# Altium schematic symbol library SCH - MCU - STM32 - ST MICROELECTRONICS STM32F373V(8-B-C)HX UFBGA100.SchLib: 1 symbol
Pins are listed as number, name and electrical type; pins without a type are passive.

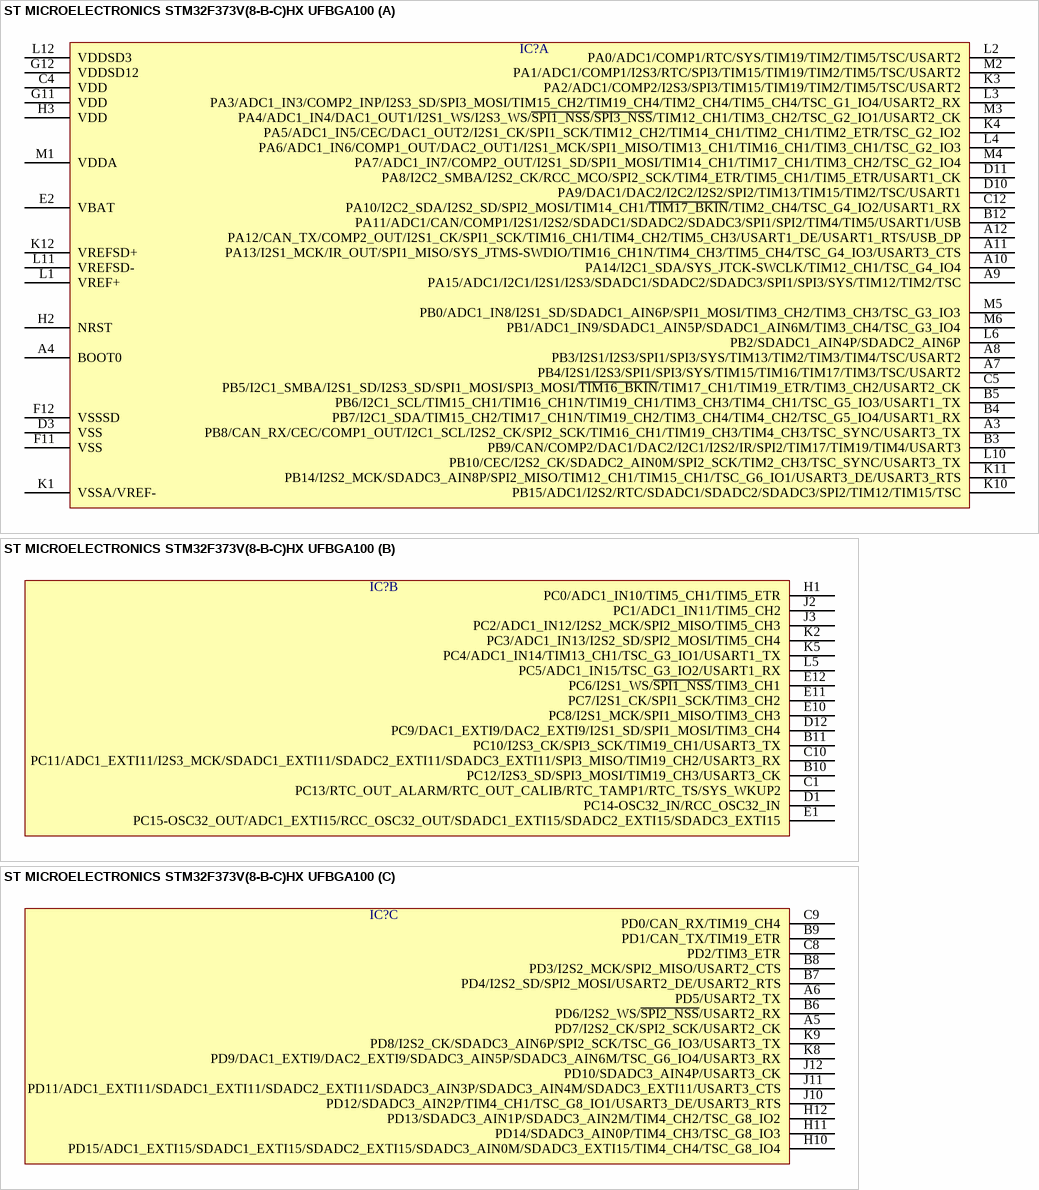
[diagram p0: symbol ST MICROELECTRONICS STM32F373V(8-B-C)HX UFBGA100]

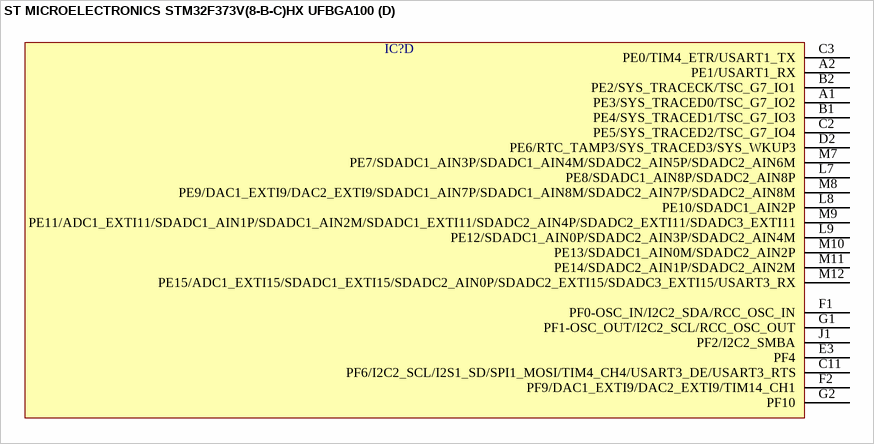
[diagram p1: symbol ST MICROELECTRONICS STM32F373V(8-B-C)HX UFBGA100]

## ST MICROELECTRONICS STM32F373V(8-B-C)HX UFBGA100
designator IC?  (value not drawn)
part A pins: A3 PB8/CAN_RX/CEC/COMP1_OUT/I2C1_SCL/I2S2_CK/SPI2_SCK/TIM16_CH1/TIM19_CH3/TIM4_CH3/TSC_SYNC/USART3_TX, A4 BOOT0, A7 PB4/I2S1/I2S3/SPI1/SPI3/SYS/TIM15/TIM16/TIM17/TIM3/TSC/USART2, A8 PB3/I2S1/I2S3/SPI1/SPI3/SYS/TIM13/TIM2/TIM3/TIM4/TSC/USART2, A9 PA15/ADC1/I2C1/I2S1/I2S3/SDADC1/SDADC2/SDADC3/SPI1/SPI3/SYS/TIM12/TIM2/TSC, A10 PA14/I2C1_SDA/SYS_JTCK-SWCLK/TIM12_CH1/TSC_G4_IO4, A11 PA13/I2S1_MCK/IR_OUT/SPI1_MISO/SYS_JTMS-SWDIO/TIM16_CH1N/TIM4_CH3/TIM5_CH4/TSC_G4_IO3/USART3_CTS, A12 PA12/CAN_TX/COMP2_OUT/I2S1_CK/SPI1_SCK/TIM16_CH1/TIM4_CH2/TIM5_CH3/USART1_DE/USART1_RTS/USB_DP, B3 PB9/CAN/COMP2/DAC1/DAC2/I2C1/I2S2/IR/SPI2/TIM17/TIM19/TIM4/USART3, B4 PB7/I2C1_SDA/TIM15_CH2/TIM17_CH1N/TIM19_CH2/TIM3_CH4/TIM4_CH2/TSC_G5_IO4/USART1_RX, B5 PB6/I2C1_SCL/TIM15_CH1/TIM16_CH1N/TIM19_CH1/TIM3_CH3/TIM4_CH1/TSC_G5_IO3/USART1_TX, B12 PA11/ADC1/CAN/COMP1/I2S1/I2S2/SDADC1/SDADC2/SDADC3/SPI1/SPI2/TIM4/TIM5/USART1/USB, C4 VDD, C5 PB5/I2C1_SMBA/I2S1_SD/I2S3_SD/SPI1_MOSI/SPI3_MOSI/~{TIM16_BKIN}/TIM17_CH1/TIM19_ETR/TIM3_CH2/USART2_CK, C12 PA10/I2C2_SDA/I2S2_SD/SPI2_MOSI/TIM14_CH1/~{TIM17_BKIN}/TIM2_CH4/TSC_G4_IO2/USART1_RX, D3 VSS, D10 PA9/DAC1/DAC2/I2C2/I2S2/SPI2/TIM13/TIM15/TIM2/TSC/USART1, D11 PA8/I2C2_SMBA/I2S2_CK/RCC_MCO/SPI2_SCK/TIM4_ETR/TIM5_CH1/TIM5_ETR/USART1_CK, E2 VBAT, F11 VSS, F12 VSSSD, G11 VDD, G12 VDDSD12, H2 NRST, H3 VDD, K1 VSSA/VREF-, K3 PA2/ADC1/COMP2/I2S3/SPI3/TIM15/TIM19/TIM2/TIM5/TSC/USART2, K4 PA5/ADC1_IN5/CEC/DAC1_OUT2/I2S1_CK/SPI1_SCK/TIM12_CH2/TIM14_CH1/TIM2_CH1/TIM2_ETR/TSC_G2_IO2, K10 PB15/ADC1/I2S2/RTC/SDADC1/SDADC2/SDADC3/SPI2/TIM12/TIM15/TSC, K11 PB14/I2S2_MCK/SDADC3_AIN8P/SPI2_MISO/TIM12_CH1/TIM15_CH1/TSC_G6_IO1/USART3_DE/USART3_RTS, K12 VREFSD+, L1 VREF+, L2 PA0/ADC1/COMP1/RTC/SYS/TIM19/TIM2/TIM5/TSC/USART2, L3 PA3/ADC1_IN3/COMP2_INP/I2S3_SD/SPI3_MOSI/TIM15_CH2/TIM19_CH4/TIM2_CH4/TIM5_CH4/TSC_G1_IO4/USART2_RX, L4 PA6/ADC1_IN6/COMP1_OUT/DAC2_OUT1/I2S1_MCK/SPI1_MISO/TIM13_CH1/TIM16_CH1/TIM3_CH1/TSC_G2_IO3, L6 PB2/SDADC1_AIN4P/SDADC2_AIN6P, L10 PB10/CEC/I2S2_CK/SDADC2_AIN0M/SPI2_SCK/TIM2_CH3/TSC_SYNC/USART3_TX, L11 VREFSD-, L12 VDDSD3, M1 VDDA, M2 PA1/ADC1/COMP1/I2S3/RTC/SPI3/TIM15/TIM19/TIM2/TIM5/TSC/USART2, M3 PA4/ADC1_IN4/DAC1_OUT1/I2S1_WS/I2S3_WS/~{SPI1_NSS}/~{SPI3_NSS}/TIM12_CH1/TIM3_CH2/TSC_G2_IO1/USART2_CK, M4 PA7/ADC1_IN7/COMP2_OUT/I2S1_SD/SPI1_MOSI/TIM14_CH1/TIM17_CH1/TIM3_CH2/TSC_G2_IO4, M5 PB0/ADC1_IN8/I2S1_SD/SDADC1_AIN6P/SPI1_MOSI/TIM3_CH2/TIM3_CH3/TSC_G3_IO3, M6 PB1/ADC1_IN9/SDADC1_AIN5P/SDADC1_AIN6M/TIM3_CH4/TSC_G3_IO4
part B pins: B10 PC12/I2S3_SD/SPI3_MOSI/TIM19_CH3/USART3_CK, B11 PC10/I2S3_CK/SPI3_SCK/TIM19_CH1/USART3_TX, C1 PC13/RTC_OUT_ALARM/RTC_OUT_CALIB/RTC_TAMP1/RTC_TS/SYS_WKUP2, C10 PC11/ADC1_EXTI11/I2S3_MCK/SDADC1_EXTI11/SDADC2_EXTI11/SDADC3_EXTI11/SPI3_MISO/TIM19_CH2/USART3_RX, D1 PC14-OSC32_IN/RCC_OSC32_IN, D12 PC9/DAC1_EXTI9/DAC2_EXTI9/I2S1_SD/SPI1_MOSI/TIM3_CH4, E1 PC15-OSC32_OUT/ADC1_EXTI15/RCC_OSC32_OUT/SDADC1_EXTI15/SDADC2_EXTI15/SDADC3_EXTI15, E10 PC8/I2S1_MCK/SPI1_MISO/TIM3_CH3, E11 PC7/I2S1_CK/SPI1_SCK/TIM3_CH2, E12 PC6/I2S1_WS/~{SPI1_NSS}/TIM3_CH1, H1 PC0/ADC1_IN10/TIM5_CH1/TIM5_ETR, J2 PC1/ADC1_IN11/TIM5_CH2, J3 PC2/ADC1_IN12/I2S2_MCK/SPI2_MISO/TIM5_CH3, K2 PC3/ADC1_IN13/I2S2_SD/SPI2_MOSI/TIM5_CH4, K5 PC4/ADC1_IN14/TIM13_CH1/TSC_G3_IO1/USART1_TX, L5 PC5/ADC1_IN15/TSC_G3_IO2/USART1_RX
part C pins: A5 PD7/I2S2_CK/SPI2_SCK/USART2_CK, A6 PD5/USART2_TX, B6 PD6/I2S2_WS/~{SPI2_NSS}/USART2_RX, B7 PD4/I2S2_SD/SPI2_MOSI/USART2_DE/USART2_RTS, B8 PD3/I2S2_MCK/SPI2_MISO/USART2_CTS, B9 PD1/CAN_TX/TIM19_ETR, C8 PD2/TIM3_ETR, C9 PD0/CAN_RX/TIM19_CH4, H10 PD15/ADC1_EXTI15/SDADC1_EXTI15/SDADC2_EXTI15/SDADC3_AIN0M/SDADC3_EXTI15/TIM4_CH4/TSC_G8_IO4, H11 PD14/SDADC3_AIN0P/TIM4_CH3/TSC_G8_IO3, H12 PD13/SDADC3_AIN1P/SDADC3_AIN2M/TIM4_CH2/TSC_G8_IO2, J10 PD12/SDADC3_AIN2P/TIM4_CH1/TSC_G8_IO1/USART3_DE/USART3_RTS, J11 PD11/ADC1_EXTI11/SDADC1_EXTI11/SDADC2_EXTI11/SDADC3_AIN3P/SDADC3_AIN4M/SDADC3_EXTI11/USART3_CTS, J12 PD10/SDADC3_AIN4P/USART3_CK, K8 PD9/DAC1_EXTI9/DAC2_EXTI9/SDADC3_AIN5P/SDADC3_AIN6M/TSC_G6_IO4/USART3_RX, K9 PD8/I2S2_CK/SDADC3_AIN6P/SPI2_SCK/TSC_G6_IO3/USART3_TX
part D pins: A1 PE3/SYS_TRACED0/TSC_G7_IO2, A2 PE1/USART1_RX, B1 PE4/SYS_TRACED1/TSC_G7_IO3, B2 PE2/SYS_TRACECK/TSC_G7_IO1, C2 PE5/SYS_TRACED2/TSC_G7_IO4, C3 PE0/TIM4_ETR/USART1_TX, C11 PF6/I2C2_SCL/I2S1_SD/SPI1_MOSI/TIM4_CH4/USART3_DE/USART3_RTS, D2 PE6/RTC_TAMP3/SYS_TRACED3/SYS_WKUP3, E3 PF4, F1 PF0-OSC_IN/I2C2_SDA/RCC_OSC_IN, F2 PF9/DAC1_EXTI9/DAC2_EXTI9/TIM14_CH1, G1 PF1-OSC_OUT/I2C2_SCL/RCC_OSC_OUT, G2 PF10, J1 PF2/I2C2_SMBA, L7 PE8/SDADC1_AIN8P/SDADC2_AIN8P, L8 PE10/SDADC1_AIN2P, L9 PE12/SDADC1_AIN0P/SDADC2_AIN3P/SDADC2_AIN4M, M7 PE7/SDADC1_AIN3P/SDADC1_AIN4M/SDADC2_AIN5P/SDADC2_AIN6M, M8 PE9/DAC1_EXTI9/DAC2_EXTI9/SDADC1_AIN7P/SDADC1_AIN8M/SDADC2_AIN7P/SDADC2_AIN8M, M9 PE11/ADC1_EXTI11/SDADC1_AIN1P/SDADC1_AIN2M/SDADC1_EXTI11/SDADC2_AIN4P/SDADC2_EXTI11/SDADC3_EXTI11, M10 PE13/SDADC1_AIN0M/SDADC2_AIN2P, M11 PE14/SDADC2_AIN1P/SDADC2_AIN2M, M12 PE15/ADC1_EXTI15/SDADC1_EXTI15/SDADC2_AIN0P/SDADC2_EXTI15/SDADC3_EXTI15/USART3_RX